# Altium footprint library SOP16P50_403X490X110L53X22N.PcbLib: 1 footprints
Each footprint in its own frame and in the unit in brackets; x right, y up, seen from the top. Pads: shape width x height; smd on the part's side, far side on the other; paste and mask are expansions set on the pad; w line width, h text height; cw(c..) or ccw(c..) is an arc to the next point about the centre after c.
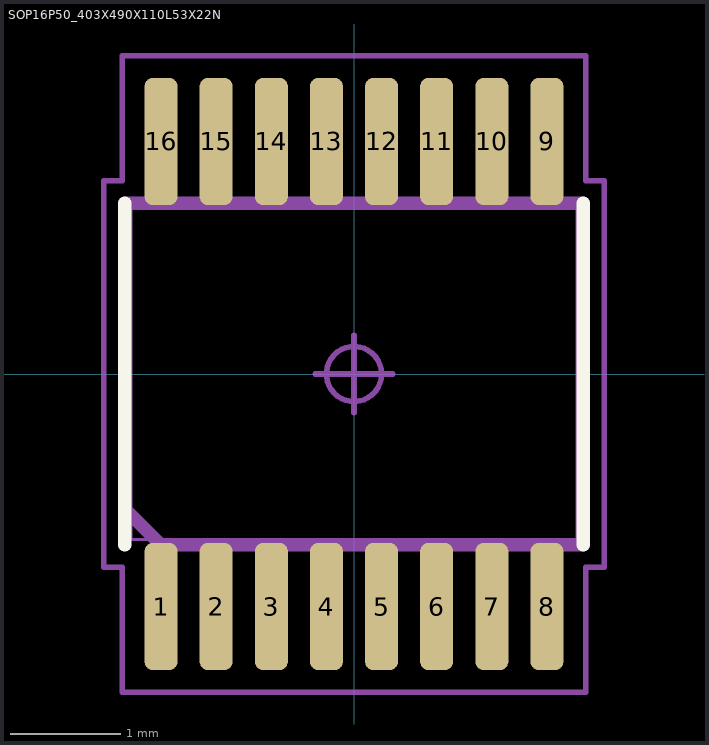
[diagram p0: the footprint, top view; thin cyan lines are the x and y axes]

## SOP16P50_403X490X110L53X22N [mm] "Small Outline Pkg (SOP), 0.50 mm pitch; 16 pin, 4.039 mm L X 3.00 mm W X 1.10 mm H body"
height 1.1
pads (16):
  rrect50% 0.3x1.153 smd: 1(-1.75,-2.109) 2(-1.25,-2.109) 3(-0.75,-2.109) 4(-0.25,-2.109) 5(0.25,-2.109) 6(0.75,-2.109) 7(1.25,-2.109) 8(1.75,-2.109) 9(1.75,2.109) 10(1.25,2.109) 11(0.75,2.109) 12(0.25,2.109) 13(-0.25,2.109) 14(-0.75,2.109) 15(-1.25,2.109) 16(-1.75,2.109)
Top Overlay:
  lines w0.12: -2.08,-1.551 -2.08,1.551 ; 2.08,-1.551 2.08,1.551
Mechanical 3:
  lines w0.12: -2.07,-1.231 -2.07,1.551 2.07,1.551 2.07,-1.551 -1.751,-1.551 -2.07,-1.231
Mechanical 5:
  lines w0.025: -2.02,-1.5 2.02,-1.5 2.02,1.5 -2.02,1.5 -2.02,-1.5 ; -1.86,-2.45 -1.86,-1.92 -1.64,-1.92 -1.64,-2.45 -1.86,-2.45 ; -1.86,1.92 -1.86,2.45 -1.64,2.45 -1.64,1.92 -1.86,1.92 ; -1.36,-2.45 -1.36,-1.92 -1.14,-1.92 -1.14,-2.45 -1.36,-2.45 ; -1.36,1.92 -1.36,2.45 -1.14,2.45 -1.14,1.92 -1.36,1.92 ; -0.86,-2.45 -0.86,-1.92 -0.64,-1.92 -0.64,-2.45 -0.86,-2.45 ; -0.86,1.92 -0.86,2.45 -0.64,2.45 -0.64,1.92 -0.86,1.92 ; -0.36,-2.45 -0.36,-1.92 -0.14,-1.92 -0.14,-2.45 -0.36,-2.45 ; -0.36,1.92 -0.36,2.45 -0.14,2.45 -0.14,1.92 -0.36,1.92 ; 0.14,-2.45 0.14,-1.92 0.36,-1.92 0.36,-2.45 0.14,-2.45 ; 0.14,1.92 0.14,2.45 0.36,2.45 0.36,1.92 0.14,1.92 ; 0.64,-2.45 0.64,-1.92 0.86,-1.92 0.86,-2.45 0.64,-2.45 ; 0.64,1.92 0.64,2.45 0.86,2.45 0.86,1.92 0.64,1.92 ; 1.14,-2.45 1.14,-1.92 1.36,-1.92 1.36,-2.45 1.14,-2.45 ; 1.14,1.92 1.14,2.45 1.36,2.45 1.36,1.92 1.14,1.92 ; 1.64,-2.45 1.64,-1.92 1.86,-1.92 1.86,-2.45 1.64,-2.45 ; 1.64,1.92 1.64,2.45 1.86,2.45 1.86,1.92 1.64,1.92
Mechanical 7:
  circle w0.05: c0,0 r0.25
  lines w0.05: -0.35,0 0.35,0 ; 0,-0.35 0,0.35 ; -2.27,-1.751 -2.1,-1.751 -2.1,-2.886 2.1,-2.886 2.1,-1.751 2.27,-1.751 2.27,1.751 2.1,1.751 2.1,2.886 -2.1,2.886 -2.1,1.751 -2.27,1.751 -2.27,-1.751
Mechanical 9:
  text ".Designator" at 0.254,0.762 h1.52
3D body "SOP16P50_403X490X110L53X22.STEP": height 1.1, standoff 0, extent -2.02,-2.45 2.02,2.45
3D body "SOP16P50_403X490X110L53X22.STEP": height 1.1, standoff 0, extent -2.02,-2.45 2.02,2.45
3D body: height 2, standoff 0, extent -2.27,-2.886 2.27,2.886